# EAGLE library part ESHF-105-01-F-D-SM-LC (library ESHF-105-01-F-D-SM-LC)
SAMTEC - ESHF-105-01-F-D-SM-LC - CONNECTOR, HEADER, 10POS, 2ROW, 1.27MM Source: Datasheet <http://suddendocs.samtec.com/prints/eshf-1xx-01-x-d-xx-xx-mkt.pdf>
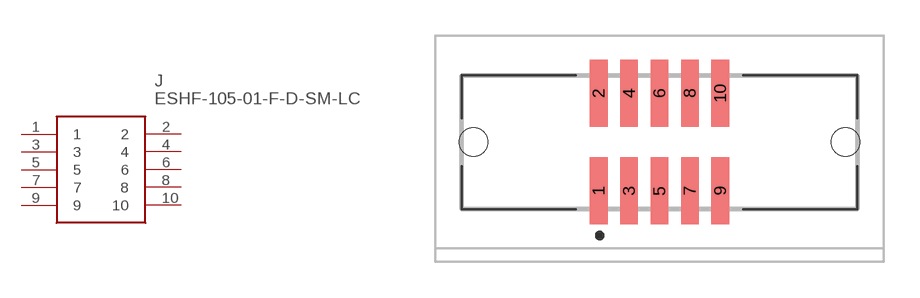
[diagram p0: symbol with the pads of ESHF10501FDSMLC; footprint ESHF10501FDSMLC]

Designator prefix J

## ESHF-105-01-F-D-SM-LC (Description: SAMTEC - ESHF-105-01-F-D-SM-LC - CONNECTOR, HEADER, 10POS, 2ROW, 1.27MM; Height: 5.33mm; Manufacturer_Name: SAMTEC; Manufacturer_Part_Number: ESHF-105-01-F-D-SM-LC; Mouser_Part_Number: 200-ESHF10501FDSMLC; Mouser_Price-Stock: https://www.mouser.co.uk/ProductDetail/Samtec/ESHF-105-01-F-D-SM-LC?qs=%252BZP6%2F%252BtExtC01phIgADOpA%3D%3D)  [ESHF10501FDSMLC]
1  1
2  2
3  3
4  4
5  5
6  6
7  7
8  8
9  9
10  10

## Footprint ESHF10501FDSMLC (pad centres in mm)
ESHF-105-01-F-D-SM-LC-1
smd 0.74 x 2.805: 1 -2.54,-2.038; 2 -2.54,2.037; 3 -1.27,-2.038; 4 -1.27,2.037; 5 0,-2.038; 6 0,2.037; 7 1.27,-2.038; 8 1.27,2.037; 9 2.54,-2.038; 10 2.54,2.037
hole 1.19 at -7.77,0
hole 1.19 at 7.77,0